# Altium schematic symbol library AD558.SchLib: 2 symbols
Pins are listed as number, name and electrical type; pins without a type are passive.

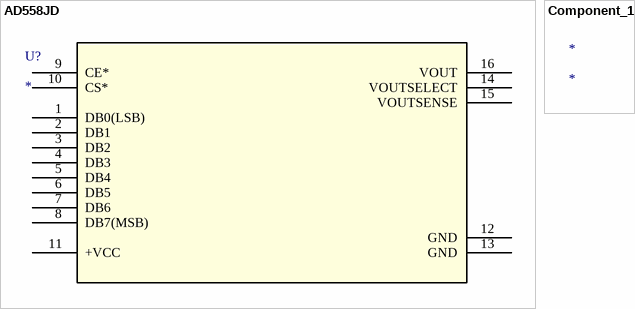
[diagram p0: symbols AD558JD to Component_1]

## AD558JD
designator U?
Imported; Manufacturer_Part_Number: AD558JD; Vendor: Vendor; Value: Value; Type: Type; RefDes: Refdes
footprint DIP-16 (DIP; 16 Leads; Row Spacing 7.62 mm; Pitch 2.54 mm)
pins: 1 DB0(LSB), 2 DB1, 3 DB2, 4 DB3, 5 DB4, 6 DB5, 7 DB6, 8 DB7(MSB), 9 CE*, 10 CS*, 11 +VCC (power), 12 GND, 13 GND, 14 VOUTSELECT, 15 VOUTSENSE, 16 VOUT

## Component_1
designator *